# Altium footprint library PCB_lib_atmega_Board.PcbLib: 28 footprints (part 1 of 2)
Each footprint in its own frame and in the unit in brackets; x right, y up, seen from the top. Pads: shape width x height; smd on the part's side, far side on the other; paste and mask are expansions set on the pad; w line width, h text height; cw(c..) or ccw(c..) is an arc to the next point about the centre after c.
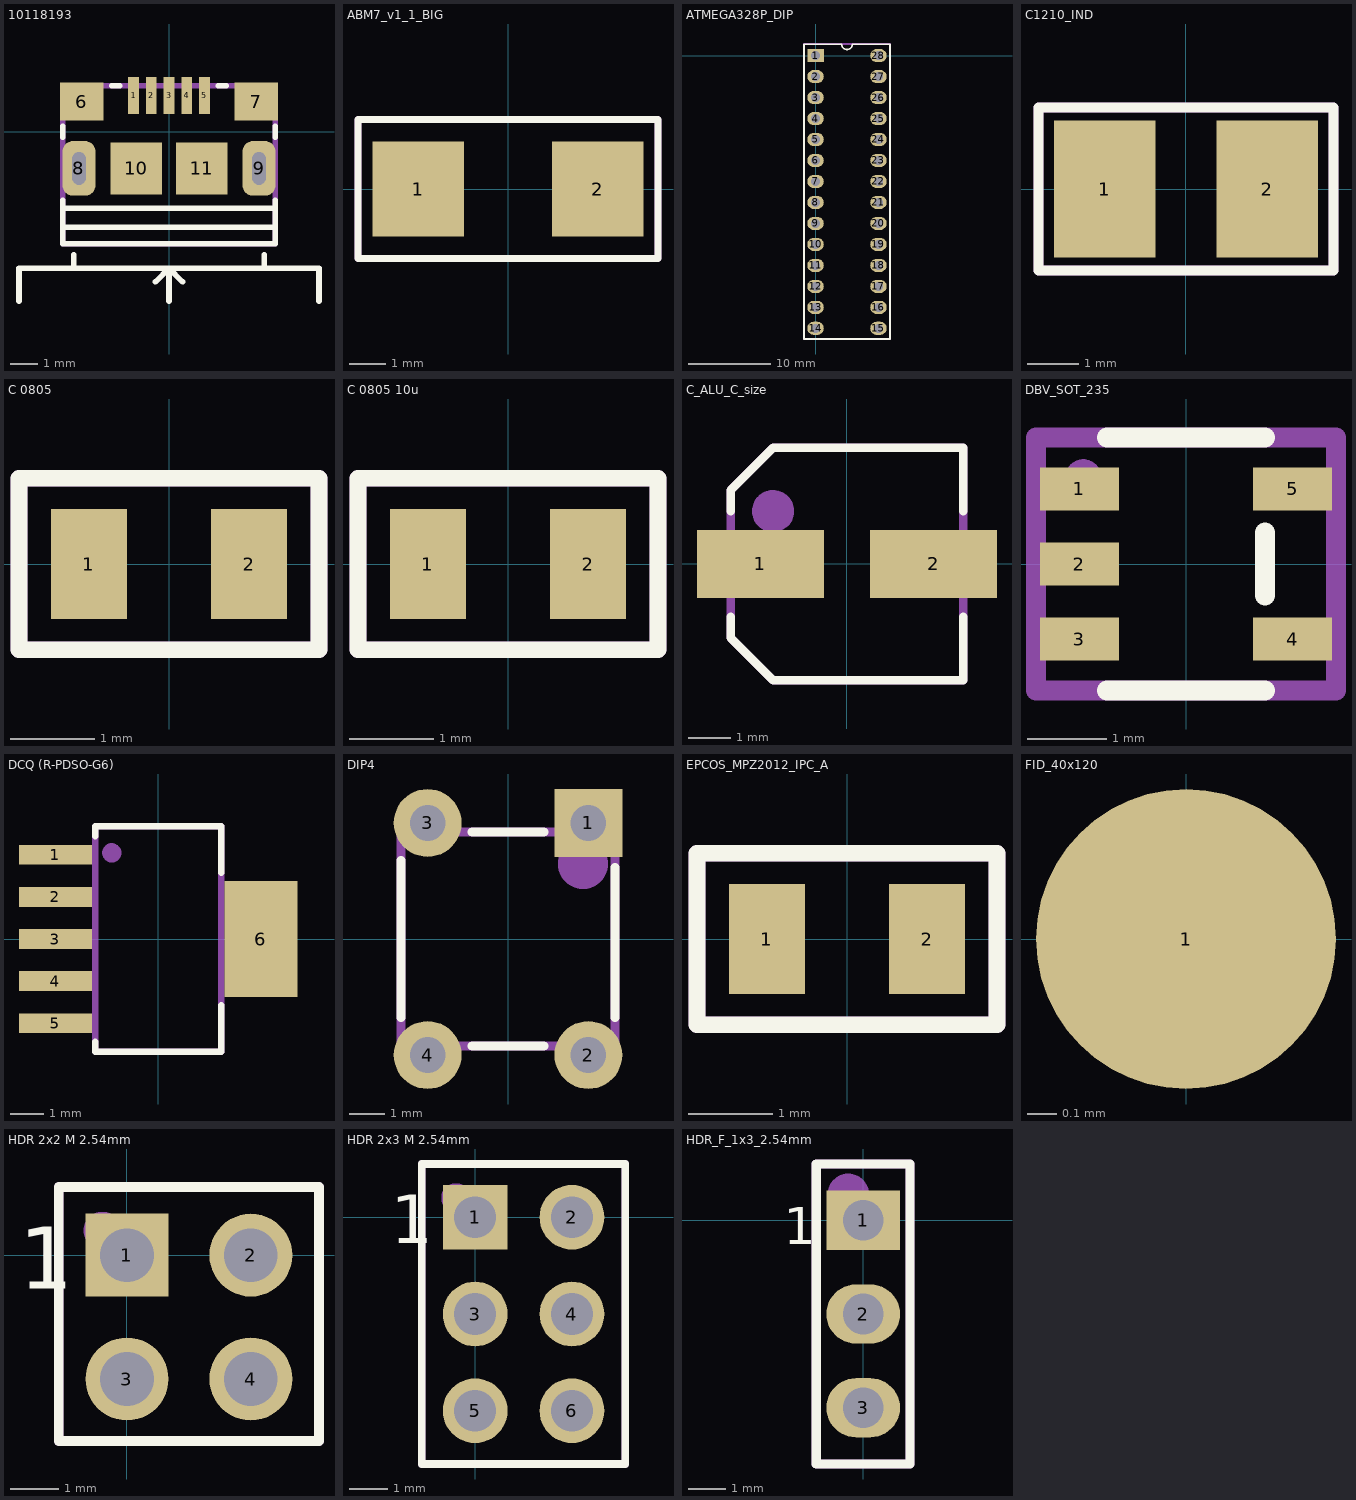
[diagram p0: the footprints below, top view; thin cyan lines are the x and y axes]

## 28 dip 7.62 mm socket [mm]
3D body "dil_socket.stp": height 4.2, standoff -3.17, extent -1.24,-34.26 8.86,1.24

## 10118193 [mm]
pads (11):
  rect 0.4x1.35 smd mask+0.05: 1(-1.3,1.338) 2(-0.65,1.338) 3(0,1.338) 4(0.65,1.338) 5(1.3,1.338)
  rect 1.6x1.4 smd: 6(-3.2,1.112) 7(3.2,1.112)
  rrect60% 1.2x2 hole 0.5 slot 1.2 at 90 deg: 8(-3.3,-1.338) 9(3.3,-1.338)
  rect 1.9x1.9 smd: 10(-1.2,-1.338) 11(1.2,-1.338)
Top Overlay:
  lines w0.203: -5.5,-6.2 -5.5,-5 5.5,-5 5.5,-6.2 ; -3.9,-3.5 3.9,-3.5 ; -3.9,-2.8 3.9,-2.8 ; -3.9,-2.5 -3.9,-4.1 3.9,-4.1 3.9,-2.5 ; -3.9,-0.2 -3.9,0.2 ; -3.5,-5 -3.5,-4.5 ; -2.1,1.7 -1.8,1.7 ; 0,-6.2 0,-5 ; 0.1,-5 0,-5 ; 0.5,-5.5 0,-5 ; 1.8,1.7 2.1,1.7 ; 3.5,-5 3.5,-4.5 ; 3.9,-0.2 3.9,0.2 ; 0,-5 -0.5,-5.5 0,-5
Mechanical 29:
  lines w0.203: -3.9,-4.1 -3.9,1.7 3.9,1.7 3.9,-4.1 -3.9,-4.1
  text "'.Designator'" at -2.446,-1.338 h1.52
3D body "micro usb 10118193-0001lfc.stp": height 2.81, standoff -0.79, extent -3.928,-4.023 3.928,1.638

## ABM7_v1_1_BIG [mm]
pads (2):
  rect 2.5x2.6 smd: 1(-2.45,0) 2(2.45,0)
Top Overlay:
  lines w0.2: -4.1,-1.9 4.1,-1.9 4.1,1.9 -4.1,1.9 -4.1,-1.9
Mechanical 29:
  lines w0.2: -4.1,-1.9 4.1,-1.9 4.1,1.9 -4.1,1.9 -4.1,-1.9
  text "'.Designator'" at -3.646,-0.729 h1.25
3D body "ABM7.STEP": height 1.41, standoff 0.01, extent -2.997,-1.753 2.997,1.753

## ATMEGA328P_DIP [mm]
pads (28):
  rect 2x1.6 hole 1.1: 1(0,0)
  oval 2x1.6 hole 1.1: 2(0,-2.54) 3(0,-5.08) 4(0,-7.62) 5(0,-10.16) 6(0,-12.7) 7(0,-15.24) 8(0,-17.78) 9(0,-20.32) 10(0,-22.86) 11(0,-25.4) 12(0,-27.94) 13(0,-30.48) 14(0,-33.02) 15(7.62,-33.02) 16(7.62,-30.48) 17(7.62,-27.94) 18(7.62,-25.4) 19(7.62,-22.86) 20(7.62,-20.32) 21(7.62,-17.78) 22(7.62,-15.24) 23(7.62,-12.7) 24(7.62,-10.16) 25(7.62,-7.62) 26(7.62,-5.08) 27(7.62,-2.54) 28(7.62,0)
Top Overlay:
  lines w0.2: -1.39,1.27 -1.39,-34.31 9.01,-34.31 9.01,1.27 ; -1.39,1.37 3.175,1.37 ccw(c3.81,1.37) 4.445,1.37 9.01,1.37
Mechanical 29:
  circle w0.5: c0.01,-0.01 r0.2
  lines w0.2: -1.39,1.39 -1.39,-34.31 9.01,-34.31 9.01,1.39
  lines w0.254: -1.39,1.39 9.01,1.39
  text "'.Designator'" at 4.348,-22.156 h1.52
3D body "User Library-28 pin dip-1.step": height 7.55, standoff 1.33, extent -0.164,-34.481 7.71,1.461

## C1210_IND [mm]
pads (2):
  rect 2x2.7 smd: 1(-1.6,0) 2(1.6,0)
Top Overlay:
  lines w0.2: -2.9,-1.6 -2.9,1.6 2.9,1.6 2.9,-1.6 -2.9,-1.6
Mechanical 29:
  lines w0.2: -2.9,-1.6 -2.9,1.6 2.9,1.6 2.9,-1.6 -2.9,-1.6
  text "'.Designator'" at -2.6,-0.717 h1
3D body: height 2.7, standoff -0.01, extent -1.7,-1.25 -1.4,1.25
3D body: height 2.7, standoff -0.01, extent 1.5,-1.25 1.8,1.25
3D body: height 2.7, standoff -0.01, extent -1.4,1.25 -1.4,1.25
3D body: height 2.7, standoff -0.01, extent -1.4,-1.25 1.5,1.25

## C 0805 [mm]
pads (2):
  rect 0.9x1.3 smd: 1(-0.95,0) 2(0.95,0)
Top Overlay:
  lines w0.2: -1.778,-1.016 -1.778,1.016 1.778,1.016 1.778,-1.016 -1.778,-1.016
Mechanical 29:
  lines w0.2: -1.778,-1.016 -1.778,1.016 1.778,1.016 1.778,-1.016 -1.778,-1.016
  text "'.Designator'" at -1.3,-0.3 h0.6
3D body "CAPC2012X70N EIA 0805.step": height 0.71, standoff 0.01, extent -1,-0.6 1,0.6

## C 0805 10u [mm]
pads (2):
  rect 0.9x1.3 smd: 1(-0.95,0) 2(0.95,0)
Top Overlay:
  lines w0.2: -1.778,-1.016 1.778,-1.016 1.778,1.016 -1.778,1.016 -1.778,-1.016
Mechanical 29:
  lines w0.2: -1.778,-1.016 1.778,-1.016 1.778,1.016 -1.778,1.016 -1.778,-1.016
  text "'.Designator'" at -1.3,-0.3 h0.6
3D body "CAPC2012X140N EIA 0805.step": height 1.41, standoff 0.01, extent -1,-0.6 1,0.6

## C_ALU_C_size [mm]
pads (2):
  rect 3x1.6 smd: 1(-2.05,0) 2(2.05,0)
Top Overlay:
  lines w0.203: -2.75,-1.25 -2.75,-1.75 -1.75,-2.75 2.75,-2.75 2.75,-1.25 ; -2.75,1.25 -2.75,1.75 -1.75,2.75 2.75,2.75 2.75,1.25
Mechanical 29:
  circle w0.5: c-1.75,1.25 r0.25
  lines w0.203: -2.75,-1.75 -2.75,1.75 -1.75,2.75 2.75,2.75 2.75,-2.75 -1.75,-2.75 -2.75,-1.75
  text "'.Designator'" at -2.55,-1.217 h1
3D body "capacitor size C.step": height 5.41, standoff -0.01, extent -2.95,-2.65 2.95,2.65

## DBV_SOT_235 [mm]
pads (5):
  rect 1x0.55 smd: 1(-1.35,0.95) 2(-1.35,0) 3(-1.35,-0.95) 4(1.35,-0.95) 5(1.35,0.95)
Top Overlay:
  lines w0.254: -1,-1.6 1,-1.6 ; -1,1.6 1,1.6 ; 1,-0.4 1,0.4
Mechanical 29:
  circle w0.254: c-1.3,1.1 r0.1
  lines w0.254: -1.9,-1.6 -1.9,1.6 1.9,1.6 1.9,-1.6 -1.9,-1.6
  text "'.Designator'" at -1.875,-0.525 h0.75
3D body "AND ic-TPS79333DBVR.step": height 1.61, standoff -0.01, extent -1.514,-1.525 1.514,1.525

## DCQ (R-PDSO-G6) [mm]
pads (6):
  rect 2.2x0.6 smd: 1(-3.1,2.54) 2(-3.1,1.27) 3(-3.1,0) 4(-3.1,-1.27) 5(-3.1,-2.54)
  rect 2.2x3.5 smd: 6(3.1,0)
Top Overlay:
  lines w0.203: -1.9,-3.1 -1.9,-3.4 1.9,-3.4 1.9,-2 ; -1.9,3.1 -1.9,3.4 1.9,3.4 1.9,2
Mechanical 29:
  circle w0.3: c-1.4,2.6 r0.141
  lines w0.203: -1.9,-3.4 1.9,-3.4 1.9,3.4 -1.9,3.4 -1.9,-3.4
  text "'.Designator'" at 0.483,-3 h1.25
3D body "TPS73701DCQ.step": height 1.78, standoff -0.02, extent -3.63,-3.275 3.63,3.275

## DIP4 [mm]
pads (4):
  rect 1.9x1.9 hole 1: 1(2.25,3.25)
  round 1.9 hole 1: 2(2.25,-3.25) 3(-2.25,3.25) 4(-2.25,-3.25)
Top Overlay:
  lines w0.254: -3,-2.2 -3,2.2 ; -1,-3 1,-3 ; -1,3 1,3 ; 3,-2.2 3,2
Mechanical 29:
  circle w1: c2.1,2.1 r0.2
  lines w0.254: -3,-3 3,-3 3,3 -3,3 -3,-3
  text "'.Designator'" at -2.5,-0.667 h1.6
3D body "PUSH BUTTON-FSM4JLH(1825910-5).step": height 5, standoff -3.51, extent -2.995,-3.898 2.995,3.9

## EPCOS_MPZ2012_IPC_A [mm]
pads (2):
  rect 0.9x1.3 smd: 1(-0.95,0) 2(0.95,0)
Top Overlay:
  lines w0.2: -1.778,-1.016 1.778,-1.016 1.778,1.016 -1.778,1.016 -1.778,-1.016
Mechanical 29:
  lines w0.2: -1.778,-1.016 1.778,-1.016 1.778,1.016 -1.778,1.016 -1.778,-1.016
  text "'.Designator'" at -1.3,-0.3 h0.6
3D body "FBead_EPCOS_MPZ2012S601AT000_eec.STEP": height 1.05, standoff 0, extent -1,-0.625 1,0.625

## FID_40x120 [mil]
pads (1):
  round 40 smd paste-40 mask+40: 1(0,0)

## HDR 2x2 M 2.54mm [mm]
pads (4):
  rect 1.7x1.7 hole 1.1: 1(0,0)
  round 1.7 hole 1.1: 2(2.54,0) 3(0,-2.54) 4(2.54,-2.54)
Top Overlay:
  lines w0.2: -1.397,-3.81 3.937,-3.81 3.937,1.397 -1.397,1.397 -1.397,-3.81
  text "1" at -2.213,-0.689 h1.27
Mechanical 29:
  circle w0.508: c-0.508,0.508 r0.127
  lines w0.2: -1.397,-3.81 3.937,-3.81 3.937,1.397 -1.397,1.397 -1.397,-3.81
  text "'.Designator'" at 1.619,-3.472 h0.76
3D body "961204-6404-XX.stp": height 8.01, standoff -3.29, extent -1.268,-3.722 3.812,1.278

## HDR 2x3 M 2.54mm [mm]
pads (6):
  rect 1.7x1.7 hole 1.1: 1(0,0)
  round 1.7 hole 1.1: 2(2.54,0) 3(0,-2.54) 4(2.54,-2.54) 5(0,-5.08) 6(2.54,-5.08)
Top Overlay:
  lines w0.2: -1.397,-6.477 -1.397,1.397 3.937,1.397 3.937,-6.477 -1.397,-6.477
  text "1" at -2.213,-0.689 h1.27
Mechanical 29:
  circle w0.508: c-0.508,0.508 r0.127
  lines w0.2: -1.397,-6.477 -1.397,1.397 3.937,1.397 3.937,-6.477 -1.397,-6.477
  text "'.Designator'" at 1.863,-6.096 h1.27
3D body "961206-6404-XX.stp": height 8.01, standoff -3.29, extent -1.23,-6.35 3.77,1.27

## HDR_F_1x3_2.54mm [mm]
pads (3):
  rect 2x1.6 hole 1.1: 1(0,0)
  oval 2x1.6 hole 1.1: 2(0,-2.54) 3(0,-5.08)
Top Overlay:
  lines w0.254: -1.27,-6.604 1.27,-6.604 1.27,1.524 -1.27,1.524 -1.27,-6.604
  text "1" at -2.146,-0.646 h1
Mechanical 29:
  circle w0.635: c-0.4,0.7 r0.246
  lines w0.254: -1.27,-6.604 1.27,-6.604 1.27,1.524 -1.27,1.524 -1.27,-6.604
  text "'.Designator'" at 0.423,-6.096 h1.02
3D body "68000-x03.stp": height 8.39, standoff -2.4, extent -1.207,-6.35 1.207,1.27